# Altium footprint library QFP_Shrink_Rect_40P_Side_M.PcbLib: 12 footprints
Each footprint in its own frame and in the unit in brackets; x right, y up, seen from the top. Pads: shape width x height; smd on the part's side, far side on the other; paste and mask are expansions set on the pad; w line width, h text height; cw(c..) or ccw(c..) is an arc to the next point about the centre after c.
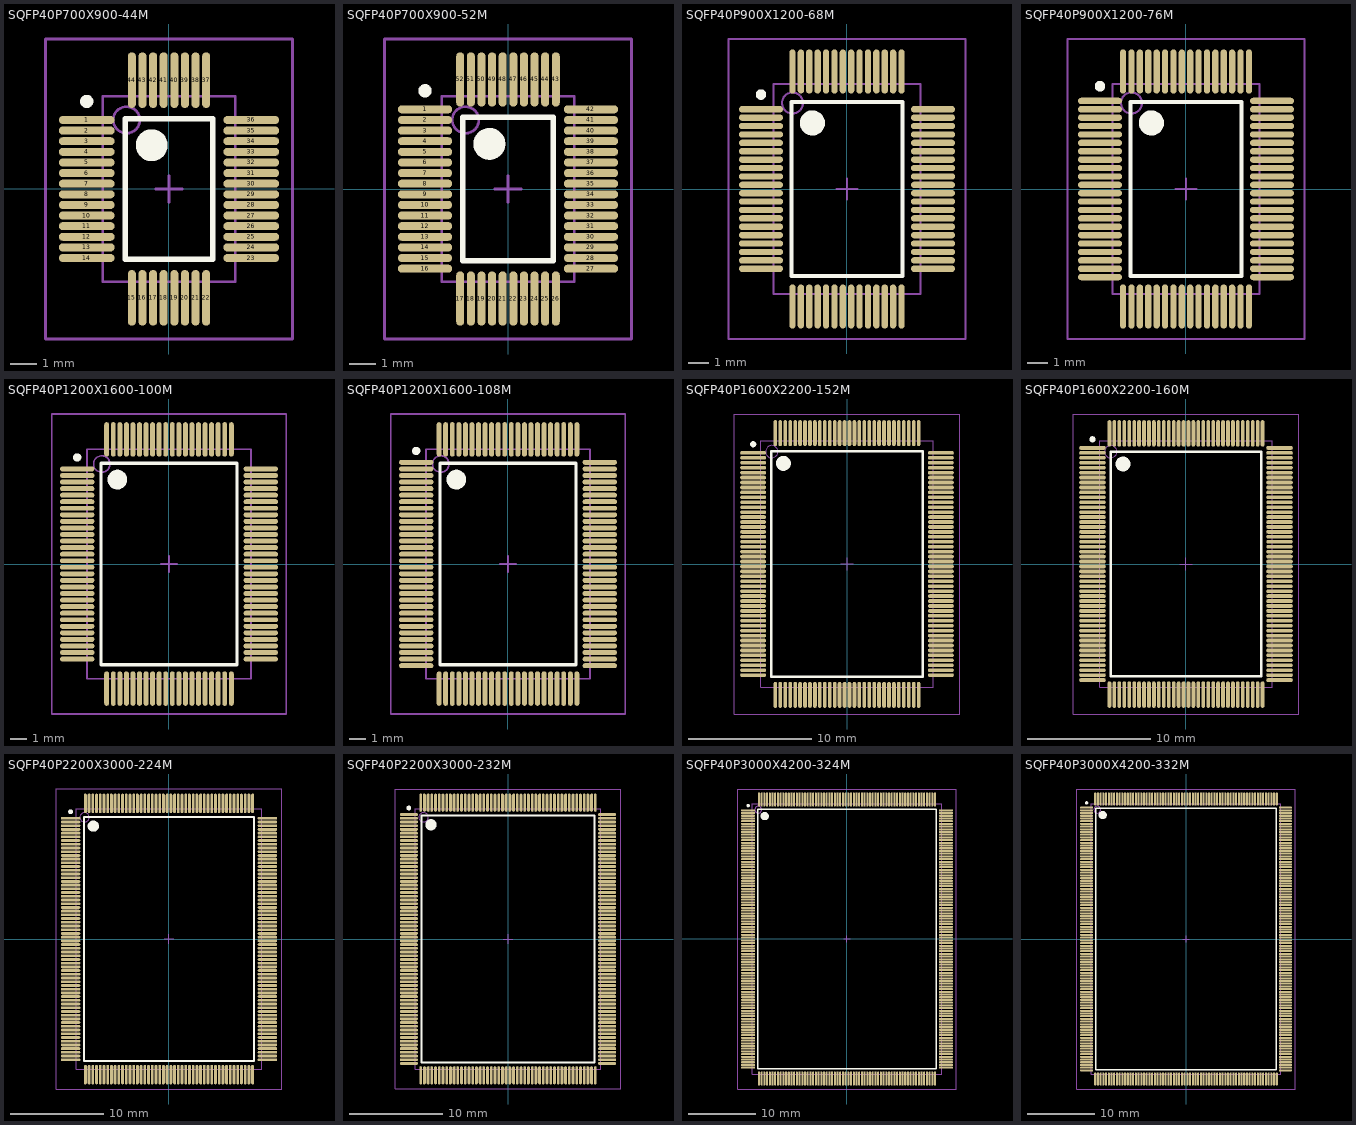
[diagram p0: the footprints below, top view; thin cyan lines are the x and y axes]

## SQFP40P700X900-44M [mm] "Shrink QFP, 44-Leads, Body 7x5 mm, Pitch 0.4mm, IPC Low Density"
height 1.7
pads (44):
  oval 2.1x0.3 smd: 1(-3.1,2.6) 2(-3.1,2.2) 3(-3.1,1.8) 4(-3.1,1.4) 5(-3.1,1) 6(-3.1,0.6) 7(-3.1,0.2) 8(-3.1,-0.2) 9(-3.1,-0.6) 10(-3.1,-1) 11(-3.1,-1.4) 12(-3.1,-1.8) 13(-3.1,-2.2) 14(-3.1,-2.6) 23(3.1,-2.6) 24(3.1,-2.2) 25(3.1,-1.8) 26(3.1,-1.4) 27(3.1,-1) 28(3.1,-0.6) 29(3.1,-0.2) 30(3.1,0.2) 31(3.1,0.6) 32(3.1,1) 33(3.1,1.4) 34(3.1,1.8) 35(3.1,2.2) 36(3.1,2.6)
  oval 0.3x2.1 smd: 15(-1.4,-4.1) 16(-1,-4.1) 17(-0.6,-4.1) 18(-0.2,-4.1) 19(0.2,-4.1) 20(0.6,-4.1) 21(1,-4.1) 22(1.4,-4.1) 37(1.4,4.1) 38(1,4.1) 39(0.6,4.1) 40(0.2,4.1) 41(-0.2,4.1) 42(-0.6,4.1) 43(-1,4.1) 44(-1.4,4.1)
Top Overlay:
  circle w0.6: c-0.65,1.65 r0.3
  circle w0.25: c-3.1,3.3 r0.125
  lines w0.2: -1.65,-2.65 1.65,-2.65 1.65,2.65 -1.65,2.65 -1.65,-2.65
Mechanical 13:
  circle w0.1: c-1.6,2.6 r0.5
  lines w0.1: -2.5,-3.5 2.5,-3.5 2.5,3.5 -2.5,3.5 -2.5,-3.5
Mechanical 15:
  lines w0.1: -0.5,0 0.5,0 ; 0,-0.5 0,0.5 ; -4.65,-5.65 4.65,-5.65 4.65,5.65 -4.65,5.65 -4.65,-5.65
3D body: height 1.7, standoff 0, extent -2.5,-3.5 2.5,3.5

## SQFP40P700X900-52M [mm] "Shrink QFP, 52-Leads, Body 7x5 mm, Pitch 0.4mm, IPC Low Density"
height 1.7
pads (52):
  oval 2.05x0.3 smd: 1(-3.125,3) 2(-3.125,2.6) 3(-3.125,2.2) 4(-3.125,1.8) 5(-3.125,1.4) 6(-3.125,1) 7(-3.125,0.6) 8(-3.125,0.2) 9(-3.125,-0.2) 10(-3.125,-0.6) 11(-3.125,-1) 12(-3.125,-1.4) 13(-3.125,-1.8) 14(-3.125,-2.2) 15(-3.125,-2.6) 16(-3.125,-3) 27(3.125,-3) 28(3.125,-2.6) 29(3.125,-2.2) 30(3.125,-1.8) 31(3.125,-1.4) 32(3.125,-1) 33(3.125,-0.6) 34(3.125,-0.2) 35(3.125,0.2) 36(3.125,0.6) 37(3.125,1) 38(3.125,1.4) 39(3.125,1.8) 40(3.125,2.2) 41(3.125,2.6) 42(3.125,3)
  oval 0.3x2.05 smd: 17(-1.8,-4.125) 18(-1.4,-4.125) 19(-1,-4.125) 20(-0.6,-4.125) 21(-0.2,-4.125) 22(0.2,-4.125) 23(0.6,-4.125) 24(1,-4.125) 25(1.4,-4.125) 26(1.8,-4.125) 43(1.8,4.125) 44(1.4,4.125) 45(1,4.125) 46(0.6,4.125) 47(0.2,4.125) 48(-0.2,4.125) 49(-0.6,4.125) 50(-1,4.125) 51(-1.4,4.125) 52(-1.8,4.125)
Top Overlay:
  circle w0.6: c-0.7,1.7 r0.3
  circle w0.25: c-3.125,3.7 r0.125
  lines w0.2: -1.7,-2.7 1.7,-2.7 1.7,2.7 -1.7,2.7 -1.7,-2.7
Mechanical 13:
  circle w0.1: c-1.6,2.6 r0.5
  lines w0.1: -2.5,-3.5 2.5,-3.5 2.5,3.5 -2.5,3.5 -2.5,-3.5
Mechanical 15:
  lines w0.1: -0.5,0 0.5,0 ; 0,-0.5 0,0.5 ; -4.65,-5.65 4.65,-5.65 4.65,5.65 -4.65,5.65 -4.65,-5.65
3D body: height 1.7, standoff 0, extent -2.5,-3.5 2.5,3.5

## SQFP40P900X1200-68M [mm] "Shrink QFP, 68-Leads, Body 10x7 mm, Pitch 0.4mm, IPC Low Density"
height 2.2
pads (68):
  oval 2.1x0.3 smd: 1(-4.1,3.8) 2(-4.1,3.4) 3(-4.1,3) 4(-4.1,2.6) 5(-4.1,2.2) 6(-4.1,1.8) 7(-4.1,1.4) 8(-4.1,1) 9(-4.1,0.6) 10(-4.1,0.2) 11(-4.1,-0.2) 12(-4.1,-0.6) 13(-4.1,-1) 14(-4.1,-1.4) 15(-4.1,-1.8) 16(-4.1,-2.2) 17(-4.1,-2.6) 18(-4.1,-3) 19(-4.1,-3.4) 20(-4.1,-3.8) 35(4.1,-3.8) 36(4.1,-3.4) 37(4.1,-3) 38(4.1,-2.6) 39(4.1,-2.2) 40(4.1,-1.8) 41(4.1,-1.4) 42(4.1,-1) 43(4.1,-0.6) 44(4.1,-0.2) 45(4.1,0.2) 46(4.1,0.6) 47(4.1,1) 48(4.1,1.4) 49(4.1,1.8) 50(4.1,2.2) 51(4.1,2.6) 52(4.1,3) 53(4.1,3.4) 54(4.1,3.8)
  oval 0.3x2.1 smd: 21(-2.6,-5.6) 22(-2.2,-5.6) 23(-1.8,-5.6) 24(-1.4,-5.6) 25(-1,-5.6) 26(-0.6,-5.6) 27(-0.2,-5.6) 28(0.2,-5.6) 29(0.6,-5.6) 30(1,-5.6) 31(1.4,-5.6) 32(1.8,-5.6) 33(2.2,-5.6) 34(2.6,-5.6) 55(2.6,5.6) 56(2.2,5.6) 57(1.8,5.6) 58(1.4,5.6) 59(1,5.6) 60(0.6,5.6) 61(0.2,5.6) 62(-0.2,5.6) 63(-0.6,5.6) 64(-1,5.6) 65(-1.4,5.6) 66(-1.8,5.6) 67(-2.2,5.6) 68(-2.6,5.6)
Top Overlay:
  circle w0.6: c-1.65,3.15 r0.3
  circle w0.25: c-4.1,4.5 r0.125
  lines w0.2: -2.65,-4.15 2.65,-4.15 2.65,4.15 -2.65,4.15 -2.65,-4.15
Mechanical 13:
  circle w0.1: c-2.6,4.1 r0.5
  lines w0.1: -3.5,-5 3.5,-5 3.5,5 -3.5,5 -3.5,-5
Mechanical 15:
  lines w0.1: -0.5,0 0.5,0 ; 0,-0.5 0,0.5 ; -5.65,-7.15 5.65,-7.15 5.65,7.15 -5.65,7.15 -5.65,-7.15
3D body: height 2.2, standoff 0, extent -3.5,-5 3.5,5

## SQFP40P900X1200-76M [mm] "Shrink QFP, 76-Leads, Body 10x7 mm, Pitch 0.4mm, IPC Low Density"
height 2.2
pads (76):
  oval 2.1x0.3 smd: 1(-4.1,4.2) 2(-4.1,3.8) 3(-4.1,3.4) 4(-4.1,3) 5(-4.1,2.6) 6(-4.1,2.2) 7(-4.1,1.8) 8(-4.1,1.4) 9(-4.1,1) 10(-4.1,0.6) 11(-4.1,0.2) 12(-4.1,-0.2) 13(-4.1,-0.6) 14(-4.1,-1) 15(-4.1,-1.4) 16(-4.1,-1.8) 17(-4.1,-2.2) 18(-4.1,-2.6) 19(-4.1,-3) 20(-4.1,-3.4) 21(-4.1,-3.8) 22(-4.1,-4.2) 39(4.1,-4.2) 40(4.1,-3.8) 41(4.1,-3.4) 42(4.1,-3) 43(4.1,-2.6) 44(4.1,-2.2) 45(4.1,-1.8) 46(4.1,-1.4) 47(4.1,-1) 48(4.1,-0.6) 49(4.1,-0.2) 50(4.1,0.2) 51(4.1,0.6) 52(4.1,1) 53(4.1,1.4) 54(4.1,1.8) 55(4.1,2.2) 56(4.1,2.6) 57(4.1,3) 58(4.1,3.4) 59(4.1,3.8) 60(4.1,4.2)
  oval 0.3x2.1 smd: 23(-3,-5.6) 24(-2.6,-5.6) 25(-2.2,-5.6) 26(-1.8,-5.6) 27(-1.4,-5.6) 28(-1,-5.6) 29(-0.6,-5.6) 30(-0.2,-5.6) 31(0.2,-5.6) 32(0.6,-5.6) 33(1,-5.6) 34(1.4,-5.6) 35(1.8,-5.6) 36(2.2,-5.6) 37(2.6,-5.6) 38(3,-5.6) 61(3,5.6) 62(2.6,5.6) 63(2.2,5.6) 64(1.8,5.6) 65(1.4,5.6) 66(1,5.6) 67(0.6,5.6) 68(0.2,5.6) 69(-0.2,5.6) 70(-0.6,5.6) 71(-1,5.6) 72(-1.4,5.6) 73(-1.8,5.6) 74(-2.2,5.6) 75(-2.6,5.6) 76(-3,5.6)
Top Overlay:
  circle w0.6: c-1.65,3.15 r0.3
  circle w0.25: c-4.1,4.9 r0.125
  lines w0.2: -2.65,-4.15 2.65,-4.15 2.65,4.15 -2.65,4.15 -2.65,-4.15
Mechanical 13:
  circle w0.1: c-2.6,4.1 r0.5
  lines w0.1: -3.5,-5 3.5,-5 3.5,5 -3.5,5 -3.5,-5
Mechanical 15:
  lines w0.1: -0.5,0 0.5,0 ; 0,-0.5 0,0.5 ; -5.65,-7.15 5.65,-7.15 5.65,7.15 -5.65,7.15 -5.65,-7.15
3D body: height 2.2, standoff 0, extent -3.5,-5 3.5,5

## SQFP40P1200X1600-100M [mm] "Shrink QFP, 100-Leads, Body 14x10 mm, Pitch 0.4mm, IPC Low Density"
height 2.2
pads (100):
  oval 2.1x0.3 smd: 1(-5.6,5.8) 2(-5.6,5.4) 3(-5.6,5) 4(-5.6,4.6) 5(-5.6,4.2) 6(-5.6,3.8) 7(-5.6,3.4) 8(-5.6,3) 9(-5.6,2.6) 10(-5.6,2.2) 11(-5.6,1.8) 12(-5.6,1.4) 13(-5.6,1) 14(-5.6,0.6) 15(-5.6,0.2) 16(-5.6,-0.2) 17(-5.6,-0.6) 18(-5.6,-1) 19(-5.6,-1.4) 20(-5.6,-1.8) 21(-5.6,-2.2) 22(-5.6,-2.6) 23(-5.6,-3) 24(-5.6,-3.4) 25(-5.6,-3.8) 26(-5.6,-4.2) 27(-5.6,-4.6) 28(-5.6,-5) 29(-5.6,-5.4) 30(-5.6,-5.8) 51(5.6,-5.8) 52(5.6,-5.4) 53(5.6,-5) 54(5.6,-4.6) 55(5.6,-4.2) 56(5.6,-3.8) 57(5.6,-3.4) 58(5.6,-3) 59(5.6,-2.6) 60(5.6,-2.2) 61(5.6,-1.8) 62(5.6,-1.4) 63(5.6,-1) 64(5.6,-0.6) 65(5.6,-0.2) 66(5.6,0.2) 67(5.6,0.6) 68(5.6,1) 69(5.6,1.4) 70(5.6,1.8) 71(5.6,2.2) 72(5.6,2.6) 73(5.6,3) 74(5.6,3.4) 75(5.6,3.8) 76(5.6,4.2) 77(5.6,4.6) 78(5.6,5) 79(5.6,5.4) 80(5.6,5.8)
  oval 0.3x2.1 smd: 31(-3.8,-7.6) 32(-3.4,-7.6) 33(-3,-7.6) 34(-2.6,-7.6) 35(-2.2,-7.6) 36(-1.8,-7.6) 37(-1.4,-7.6) 38(-1,-7.6) 39(-0.6,-7.6) 40(-0.2,-7.6) 41(0.2,-7.6) 42(0.6,-7.6) 43(1,-7.6) 44(1.4,-7.6) 45(1.8,-7.6) 46(2.2,-7.6) 47(2.6,-7.6) 48(3,-7.6) 49(3.4,-7.6) 50(3.8,-7.6) 81(3.8,7.6) 82(3.4,7.6) 83(3,7.6) 84(2.6,7.6) 85(2.2,7.6) 86(1.8,7.6) 87(1.4,7.6) 88(1,7.6) 89(0.6,7.6) 90(0.2,7.6) 91(-0.2,7.6) 92(-0.6,7.6) 93(-1,7.6) 94(-1.4,7.6) 95(-1.8,7.6) 96(-2.2,7.6) 97(-2.6,7.6) 98(-3,7.6) 99(-3.4,7.6) 100(-3.8,7.6)
Top Overlay:
  circle w0.6: c-3.15,5.15 r0.3
  circle w0.25: c-5.6,6.5 r0.125
  lines w0.2: -4.15,-6.15 4.15,-6.15 4.15,6.15 -4.15,6.15 -4.15,-6.15
Mechanical 13:
  circle w0.1: c-4.1,6.1 r0.5
  lines w0.1: -5,-7 5,-7 5,7 -5,7 -5,-7
Mechanical 15:
  lines w0.1: -0.5,0 0.5,0 ; 0,-0.5 0,0.5 ; -7.15,-9.15 7.15,-9.15 7.15,9.15 -7.15,9.15 -7.15,-9.15
3D body: height 2.2, standoff 0, extent -5,-7 5,7

## SQFP40P1200X1600-108M [mm] "Shrink QFP, 108-Leads, Body 14x10 mm, Pitch 0.4mm, IPC Low Density"
height 2.2
pads (108):
  oval 2.1x0.3 smd: 1(-5.6,6.2) 2(-5.6,5.8) 3(-5.6,5.4) 4(-5.6,5) 5(-5.6,4.6) 6(-5.6,4.2) 7(-5.6,3.8) 8(-5.6,3.4) 9(-5.6,3) 10(-5.6,2.6) 11(-5.6,2.2) 12(-5.6,1.8) 13(-5.6,1.4) 14(-5.6,1) 15(-5.6,0.6) 16(-5.6,0.2) 17(-5.6,-0.2) 18(-5.6,-0.6) 19(-5.6,-1) 20(-5.6,-1.4) 21(-5.6,-1.8) 22(-5.6,-2.2) 23(-5.6,-2.6) 24(-5.6,-3) 25(-5.6,-3.4) 26(-5.6,-3.8) 27(-5.6,-4.2) 28(-5.6,-4.6) 29(-5.6,-5) 30(-5.6,-5.4) 31(-5.6,-5.8) 32(-5.6,-6.2) 55(5.6,-6.2) 56(5.6,-5.8) 57(5.6,-5.4) 58(5.6,-5) 59(5.6,-4.6) 60(5.6,-4.2) 61(5.6,-3.8) 62(5.6,-3.4) 63(5.6,-3) 64(5.6,-2.6) 65(5.6,-2.2) 66(5.6,-1.8) 67(5.6,-1.4) 68(5.6,-1) 69(5.6,-0.6) 70(5.6,-0.2) 71(5.6,0.2) 72(5.6,0.6) 73(5.6,1) 74(5.6,1.4) 75(5.6,1.8) 76(5.6,2.2) 77(5.6,2.6) 78(5.6,3) 79(5.6,3.4) 80(5.6,3.8) 81(5.6,4.2) 82(5.6,4.6) 83(5.6,5) 84(5.6,5.4) 85(5.6,5.8) 86(5.6,6.2)
  oval 0.3x2.1 smd: 33(-4.2,-7.6) 34(-3.8,-7.6) 35(-3.4,-7.6) 36(-3,-7.6) 37(-2.6,-7.6) 38(-2.2,-7.6) 39(-1.8,-7.6) 40(-1.4,-7.6) 41(-1,-7.6) 42(-0.6,-7.6) 43(-0.2,-7.6) 44(0.2,-7.6) 45(0.6,-7.6) 46(1,-7.6) 47(1.4,-7.6) 48(1.8,-7.6) 49(2.2,-7.6) 50(2.6,-7.6) 51(3,-7.6) 52(3.4,-7.6) 53(3.8,-7.6) 54(4.2,-7.6) 87(4.2,7.6) 88(3.8,7.6) 89(3.4,7.6) 90(3,7.6) 91(2.6,7.6) 92(2.2,7.6) 93(1.8,7.6) 94(1.4,7.6) 95(1,7.6) 96(0.6,7.6) 97(0.2,7.6) 98(-0.2,7.6) 99(-0.6,7.6) 100(-1,7.6) 101(-1.4,7.6) 102(-1.8,7.6) 103(-2.2,7.6) 104(-2.6,7.6) 105(-3,7.6) 106(-3.4,7.6) 107(-3.8,7.6) 108(-4.2,7.6)
Top Overlay:
  circle w0.6: c-3.15,5.15 r0.3
  circle w0.25: c-5.6,6.9 r0.125
  lines w0.2: -4.15,-6.15 4.15,-6.15 4.15,6.15 -4.15,6.15 -4.15,-6.15
Mechanical 13:
  circle w0.1: c-4.1,6.1 r0.5
  lines w0.1: -5,-7 5,-7 5,7 -5,7 -5,-7
Mechanical 15:
  lines w0.1: -0.5,0 0.5,0 ; 0,-0.5 0,0.5 ; -7.15,-9.15 7.15,-9.15 7.15,9.15 -7.15,9.15 -7.15,-9.15
3D body: height 2.2, standoff 0, extent -5,-7 5,7

## SQFP40P1600X2200-152M [mm] "Shrink QFP, 152-Leads, Body 20x14 mm, Pitch 0.4mm, IPC Low Density"
height 2.2
pads (152):
  oval 2.1x0.3 smd: 1(-7.6,9) 2(-7.6,8.6) 3(-7.6,8.2) 4(-7.6,7.8) 5(-7.6,7.4) 6(-7.6,7) 7(-7.6,6.6) 8(-7.6,6.2) 9(-7.6,5.8) 10(-7.6,5.4) 11(-7.6,5) 12(-7.6,4.6) 13(-7.6,4.2) 14(-7.6,3.8) 15(-7.6,3.4) 16(-7.6,3) 17(-7.6,2.6) 18(-7.6,2.2) 19(-7.6,1.8) 20(-7.6,1.4) 21(-7.6,1) 22(-7.6,0.6) 23(-7.6,0.2) 24(-7.6,-0.2) 25(-7.6,-0.6) 26(-7.6,-1) 27(-7.6,-1.4) 28(-7.6,-1.8) 29(-7.6,-2.2) 30(-7.6,-2.6) 31(-7.6,-3) 32(-7.6,-3.4) 33(-7.6,-3.8) 34(-7.6,-4.2) 35(-7.6,-4.6) 36(-7.6,-5) 37(-7.6,-5.4) 38(-7.6,-5.8) 39(-7.6,-6.2) 40(-7.6,-6.6) 41(-7.6,-7) 42(-7.6,-7.4) 43(-7.6,-7.8) 44(-7.6,-8.2) 45(-7.6,-8.6) 46(-7.6,-9) 77(7.6,-9) 78(7.6,-8.6) 79(7.6,-8.2) 80(7.6,-7.8) 81(7.6,-7.4) 82(7.6,-7) 83(7.6,-6.6) 84(7.6,-6.2) 85(7.6,-5.8) 86(7.6,-5.4) 87(7.6,-5) 88(7.6,-4.6) 89(7.6,-4.2) 90(7.6,-3.8) 91(7.6,-3.4) 92(7.6,-3) 93(7.6,-2.6) 94(7.6,-2.2) 95(7.6,-1.8) 96(7.6,-1.4) 97(7.6,-1) 98(7.6,-0.6) 99(7.6,-0.2) 100(7.6,0.2) 101(7.6,0.6) 102(7.6,1) 103(7.6,1.4) 104(7.6,1.8) 105(7.6,2.2) 106(7.6,2.6) 107(7.6,3) 108(7.6,3.4) 109(7.6,3.8) 110(7.6,4.2) 111(7.6,4.6) 112(7.6,5) 113(7.6,5.4) 114(7.6,5.8) 115(7.6,6.2) 116(7.6,6.6) 117(7.6,7) 118(7.6,7.4) 119(7.6,7.8) 120(7.6,8.2) 121(7.6,8.6) 122(7.6,9)
  oval 0.3x2.1 smd: 47(-5.8,-10.6) 48(-5.4,-10.6) 49(-5,-10.6) 50(-4.6,-10.6) 51(-4.2,-10.6) 52(-3.8,-10.6) 53(-3.4,-10.6) 54(-3,-10.6) 55(-2.6,-10.6) 56(-2.2,-10.6) 57(-1.8,-10.6) 58(-1.4,-10.6) 59(-1,-10.6) 60(-0.6,-10.6) 61(-0.2,-10.6) 62(0.2,-10.6) 63(0.6,-10.6) 64(1,-10.6) 65(1.4,-10.6) 66(1.8,-10.6) 67(2.2,-10.6) 68(2.6,-10.6) 69(3,-10.6) 70(3.4,-10.6) 71(3.8,-10.6) 72(4.2,-10.6) 73(4.6,-10.6) 74(5,-10.6) 75(5.4,-10.6) 76(5.8,-10.6) 123(5.8,10.6) 124(5.4,10.6) 125(5,10.6) 126(4.6,10.6) 127(4.2,10.6) 128(3.8,10.6) 129(3.4,10.6) 130(3,10.6) 131(2.6,10.6) 132(2.2,10.6) 133(1.8,10.6) 134(1.4,10.6) 135(1,10.6) 136(0.6,10.6) 137(0.2,10.6) 138(-0.2,10.6) 139(-0.6,10.6) 140(-1,10.6) 141(-1.4,10.6) 142(-1.8,10.6) 143(-2.2,10.6) 144(-2.6,10.6) 145(-3,10.6) 146(-3.4,10.6) 147(-3.8,10.6) 148(-4.2,10.6) 149(-4.6,10.6) 150(-5,10.6) 151(-5.4,10.6) 152(-5.8,10.6)
Top Overlay:
  circle w0.6: c-5.15,8.15 r0.3
  circle w0.25: c-7.6,9.7 r0.125
  lines w0.2: -6.15,-9.15 6.15,-9.15 6.15,9.15 -6.15,9.15 -6.15,-9.15
Mechanical 13:
  circle w0.1: c-6.1,9.1 r0.5
  lines w0.1: -7,-10 7,-10 7,10 -7,10 -7,-10
Mechanical 15:
  lines w0.1: -0.5,0 0.5,0 ; 0,-0.5 0,0.5 ; -9.15,-12.15 9.15,-12.15 9.15,12.15 -9.15,12.15 -9.15,-12.15
3D body: height 2.2, standoff 0, extent -7,-10 7,10

## SQFP40P1600X2200-160M [mm] "Shrink QFP, 160-Leads, Body 20x14 mm, Pitch 0.4mm, IPC Low Density"
height 2.2
pads (160):
  oval 2.15x0.3 smd: 1(-7.575,9.4) 2(-7.575,9) 3(-7.575,8.6) 4(-7.575,8.2) 5(-7.575,7.8) 6(-7.575,7.4) 7(-7.575,7) 8(-7.575,6.6) 9(-7.575,6.2) 10(-7.575,5.8) 11(-7.575,5.4) 12(-7.575,5) 13(-7.575,4.6) 14(-7.575,4.2) 15(-7.575,3.8) 16(-7.575,3.4) 17(-7.575,3) 18(-7.575,2.6) 19(-7.575,2.2) 20(-7.575,1.8) 21(-7.575,1.4) 22(-7.575,1) 23(-7.575,0.6) 24(-7.575,0.2) 25(-7.575,-0.2) 26(-7.575,-0.6) 27(-7.575,-1) 28(-7.575,-1.4) 29(-7.575,-1.8) 30(-7.575,-2.2) 31(-7.575,-2.6) 32(-7.575,-3) 33(-7.575,-3.4) 34(-7.575,-3.8) 35(-7.575,-4.2) 36(-7.575,-4.6) 37(-7.575,-5) 38(-7.575,-5.4) 39(-7.575,-5.8) 40(-7.575,-6.2) 41(-7.575,-6.6) 42(-7.575,-7) 43(-7.575,-7.4) 44(-7.575,-7.8) 45(-7.575,-8.2) 46(-7.575,-8.6) 47(-7.575,-9) 48(-7.575,-9.4) 81(7.575,-9.4) 82(7.575,-9) 83(7.575,-8.6) 84(7.575,-8.2) 85(7.575,-7.8) 86(7.575,-7.4) 87(7.575,-7) 88(7.575,-6.6) 89(7.575,-6.2) 90(7.575,-5.8) 91(7.575,-5.4) 92(7.575,-5) 93(7.575,-4.6) 94(7.575,-4.2) 95(7.575,-3.8) 96(7.575,-3.4) 97(7.575,-3) 98(7.575,-2.6) 99(7.575,-2.2) 100(7.575,-1.8) 101(7.575,-1.4) 102(7.575,-1) 103(7.575,-0.6) 104(7.575,-0.2) 105(7.575,0.2) 106(7.575,0.6) 107(7.575,1) 108(7.575,1.4) 109(7.575,1.8) 110(7.575,2.2) 111(7.575,2.6) 112(7.575,3) 113(7.575,3.4) 114(7.575,3.8) 115(7.575,4.2) 116(7.575,4.6) 117(7.575,5) 118(7.575,5.4) 119(7.575,5.8) 120(7.575,6.2) 121(7.575,6.6) 122(7.575,7) 123(7.575,7.4) 124(7.575,7.8) 125(7.575,8.2) 126(7.575,8.6) 127(7.575,9) 128(7.575,9.4)
  oval 0.3x2.15 smd: 49(-6.2,-10.575) 50(-5.8,-10.575) 51(-5.4,-10.575) 52(-5,-10.575) 53(-4.6,-10.575) 54(-4.2,-10.575) 55(-3.8,-10.575) 56(-3.4,-10.575) 57(-3,-10.575) 58(-2.6,-10.575) 59(-2.2,-10.575) 60(-1.8,-10.575) 61(-1.4,-10.575) 62(-1,-10.575) 63(-0.6,-10.575) 64(-0.2,-10.575) 65(0.2,-10.575) 66(0.6,-10.575) 67(1,-10.575) 68(1.4,-10.575) 69(1.8,-10.575) 70(2.2,-10.575) 71(2.6,-10.575) 72(3,-10.575) 73(3.4,-10.575) 74(3.8,-10.575) 75(4.2,-10.575) 76(4.6,-10.575) 77(5,-10.575) 78(5.4,-10.575) 79(5.8,-10.575) 80(6.2,-10.575) 129(6.2,10.575) 130(5.8,10.575) 131(5.4,10.575) 132(5,10.575) 133(4.6,10.575) 134(4.2,10.575) 135(3.8,10.575) 136(3.4,10.575) 137(3,10.575) 138(2.6,10.575) 139(2.2,10.575) 140(1.8,10.575) 141(1.4,10.575) 142(1,10.575) 143(0.6,10.575) 144(0.2,10.575) 145(-0.2,10.575) 146(-0.6,10.575) 147(-1,10.575) 148(-1.4,10.575) 149(-1.8,10.575) 150(-2.2,10.575) 151(-2.6,10.575) 152(-3,10.575) 153(-3.4,10.575) 154(-3.8,10.575) 155(-4.2,10.575) 156(-4.6,10.575) 157(-5,10.575) 158(-5.4,10.575) 159(-5.8,10.575) 160(-6.2,10.575)
Top Overlay:
  circle w0.6: c-5.1,8.1 r0.3
  circle w0.25: c-7.575,10.1 r0.125
  lines w0.2: -6.1,-9.1 6.1,-9.1 6.1,9.1 -6.1,9.1 -6.1,-9.1
Mechanical 13:
  circle w0.1: c-6.1,9.1 r0.5
  lines w0.1: -7,-10 7,-10 7,10 -7,10 -7,-10
Mechanical 15:
  lines w0.1: -0.5,0 0.5,0 ; 0,-0.5 0,0.5 ; -9.15,-12.15 9.15,-12.15 9.15,12.15 -9.15,12.15 -9.15,-12.15
3D body: height 2.2, standoff 0, extent -7,-10 7,10

## SQFP40P2200X3000-224M [mm] "Shrink QFP, 224-Leads, Body 28x20 mm, Pitch 0.4mm, IPC Low Density"
height 3.75
pads (224):
  oval 2.1x0.3 smd: 1(-10.6,13) 2(-10.6,12.6) 3(-10.6,12.2) 4(-10.6,11.8) 5(-10.6,11.4) 6(-10.6,11) 7(-10.6,10.6) 8(-10.6,10.2) 9(-10.6,9.8) 10(-10.6,9.4) 11(-10.6,9) 12(-10.6,8.6) 13(-10.6,8.2) 14(-10.6,7.8) 15(-10.6,7.4) 16(-10.6,7) 17(-10.6,6.6) 18(-10.6,6.2) 19(-10.6,5.8) 20(-10.6,5.4) 21(-10.6,5) 22(-10.6,4.6) 23(-10.6,4.2) 24(-10.6,3.8) 25(-10.6,3.4) 26(-10.6,3) 27(-10.6,2.6) 28(-10.6,2.2) 29(-10.6,1.8) 30(-10.6,1.4) 31(-10.6,1) 32(-10.6,0.6) 33(-10.6,0.2) 34(-10.6,-0.2) 35(-10.6,-0.6) 36(-10.6,-1) 37(-10.6,-1.4) 38(-10.6,-1.8) 39(-10.6,-2.2) 40(-10.6,-2.6) 41(-10.6,-3) 42(-10.6,-3.4) 43(-10.6,-3.8) 44(-10.6,-4.2) 45(-10.6,-4.6) 46(-10.6,-5) 47(-10.6,-5.4) 48(-10.6,-5.8) 49(-10.6,-6.2) 50(-10.6,-6.6) 51(-10.6,-7) 52(-10.6,-7.4) 53(-10.6,-7.8) 54(-10.6,-8.2) 55(-10.6,-8.6) 56(-10.6,-9) 57(-10.6,-9.4) 58(-10.6,-9.8) 59(-10.6,-10.2) 60(-10.6,-10.6) 61(-10.6,-11) 62(-10.6,-11.4) 63(-10.6,-11.8) 64(-10.6,-12.2) 65(-10.6,-12.6) 66(-10.6,-13) 113(10.6,-13) 114(10.6,-12.6) 115(10.6,-12.2) 116(10.6,-11.8) 117(10.6,-11.4) 118(10.6,-11) 119(10.6,-10.6) 120(10.6,-10.2) 121(10.6,-9.8) 122(10.6,-9.4) 123(10.6,-9) 124(10.6,-8.6) 125(10.6,-8.2) 126(10.6,-7.8) 127(10.6,-7.4) 128(10.6,-7) 129(10.6,-6.6) 130(10.6,-6.2) 131(10.6,-5.8) 132(10.6,-5.4) 133(10.6,-5) 134(10.6,-4.6) 135(10.6,-4.2) 136(10.6,-3.8) 137(10.6,-3.4) 138(10.6,-3) 139(10.6,-2.6) 140(10.6,-2.2) 141(10.6,-1.8) 142(10.6,-1.4) 143(10.6,-1) 144(10.6,-0.6) 145(10.6,-0.2) 146(10.6,0.2) 147(10.6,0.6) 148(10.6,1) 149(10.6,1.4) 150(10.6,1.8) 151(10.6,2.2) 152(10.6,2.6) 153(10.6,3) 154(10.6,3.4) 155(10.6,3.8) 156(10.6,4.2) 157(10.6,4.6) 158(10.6,5) 159(10.6,5.4) 160(10.6,5.8) 161(10.6,6.2) 162(10.6,6.6) 163(10.6,7) 164(10.6,7.4) 165(10.6,7.8) 166(10.6,8.2) 167(10.6,8.6) 168(10.6,9) 169(10.6,9.4) 170(10.6,9.8) 171(10.6,10.2) 172(10.6,10.6) 173(10.6,11) 174(10.6,11.4) 175(10.6,11.8) 176(10.6,12.2) 177(10.6,12.6) 178(10.6,13)
  oval 0.3x2.1 smd: 67(-9,-14.6) 68(-8.6,-14.6) 69(-8.2,-14.6) 70(-7.8,-14.6) 71(-7.4,-14.6) 72(-7,-14.6) 73(-6.6,-14.6) 74(-6.2,-14.6) 75(-5.8,-14.6) 76(-5.4,-14.6) 77(-5,-14.6) 78(-4.6,-14.6) 79(-4.2,-14.6) 80(-3.8,-14.6) 81(-3.4,-14.6) 82(-3,-14.6) 83(-2.6,-14.6) 84(-2.2,-14.6) 85(-1.8,-14.6) 86(-1.4,-14.6) 87(-1,-14.6) 88(-0.6,-14.6) 89(-0.2,-14.6) 90(0.2,-14.6) 91(0.6,-14.6) 92(1,-14.6) 93(1.4,-14.6) 94(1.8,-14.6) 95(2.2,-14.6) 96(2.6,-14.6) 97(3,-14.6) 98(3.4,-14.6) 99(3.8,-14.6) 100(4.2,-14.6) 101(4.6,-14.6) 102(5,-14.6) 103(5.4,-14.6) 104(5.8,-14.6) 105(6.2,-14.6) 106(6.6,-14.6) 107(7,-14.6) 108(7.4,-14.6) 109(7.8,-14.6) 110(8.2,-14.6) 111(8.6,-14.6) 112(9,-14.6) 179(9,14.6) 180(8.6,14.6) 181(8.2,14.6) 182(7.8,14.6) 183(7.4,14.6) 184(7,14.6) 185(6.6,14.6) 186(6.2,14.6) 187(5.8,14.6) 188(5.4,14.6) 189(5,14.6) 190(4.6,14.6) 191(4.2,14.6) 192(3.8,14.6) 193(3.4,14.6) 194(3,14.6) 195(2.6,14.6) 196(2.2,14.6) 197(1.8,14.6) 198(1.4,14.6) 199(1,14.6) 200(0.6,14.6) 201(0.2,14.6) 202(-0.2,14.6) 203(-0.6,14.6) 204(-1,14.6) 205(-1.4,14.6) 206(-1.8,14.6) 207(-2.2,14.6) 208(-2.6,14.6) 209(-3,14.6) 210(-3.4,14.6) 211(-3.8,14.6) 212(-4.2,14.6) 213(-4.6,14.6) 214(-5,14.6) 215(-5.4,14.6) 216(-5.8,14.6) 217(-6.2,14.6) 218(-6.6,14.6) 219(-7,14.6) 220(-7.4,14.6) 221(-7.8,14.6) 222(-8.2,14.6) 223(-8.6,14.6) 224(-9,14.6)
Top Overlay:
  circle w0.6: c-8.15,12.15 r0.3
  circle w0.25: c-10.6,13.7 r0.125
  lines w0.2: -9.15,-13.15 9.15,-13.15 9.15,13.15 -9.15,13.15 -9.15,-13.15
Mechanical 13:
  circle w0.1: c-9.1,13.1 r0.5
  lines w0.1: -10,-14 10,-14 10,14 -10,14 -10,-14
Mechanical 15:
  lines w0.1: -0.5,0 0.5,0 ; 0,-0.5 0,0.5 ; -12.15,-16.15 12.15,-16.15 12.15,16.15 -12.15,16.15 -12.15,-16.15
3D body: height 3.75, standoff 0, extent -10,-14 10,14

## SQFP40P2200X3000-232M [mm] "Shrink QFP, 232-Leads, Body 28x20 mm, Pitch 0.4mm, IPC Low Density"
height 3.75
pads (232):
  oval 1.95x0.3 smd: 1(-10.675,13.4) 2(-10.675,13) 3(-10.675,12.6) 4(-10.675,12.2) 5(-10.675,11.8) 6(-10.675,11.4) 7(-10.675,11) 8(-10.675,10.6) 9(-10.675,10.2) 10(-10.675,9.8) 11(-10.675,9.4) 12(-10.675,9) 13(-10.675,8.6) 14(-10.675,8.2) 15(-10.675,7.8) 16(-10.675,7.4) 17(-10.675,7) 18(-10.675,6.6) 19(-10.675,6.2) 20(-10.675,5.8) 21(-10.675,5.4) 22(-10.675,5) 23(-10.675,4.6) 24(-10.675,4.2) 25(-10.675,3.8) 26(-10.675,3.4) 27(-10.675,3) 28(-10.675,2.6) 29(-10.675,2.2) 30(-10.675,1.8) 31(-10.675,1.4) 32(-10.675,1) 33(-10.675,0.6) 34(-10.675,0.2) 35(-10.675,-0.2) 36(-10.675,-0.6) 37(-10.675,-1) 38(-10.675,-1.4) 39(-10.675,-1.8) 40(-10.675,-2.2) 41(-10.675,-2.6) 42(-10.675,-3) 43(-10.675,-3.4) 44(-10.675,-3.8) 45(-10.675,-4.2) 46(-10.675,-4.6) 47(-10.675,-5) 48(-10.675,-5.4) 49(-10.675,-5.8) 50(-10.675,-6.2) 51(-10.675,-6.6) 52(-10.675,-7) 53(-10.675,-7.4) 54(-10.675,-7.8) 55(-10.675,-8.2) 56(-10.675,-8.6) 57(-10.675,-9) 58(-10.675,-9.4) 59(-10.675,-9.8) 60(-10.675,-10.2) 61(-10.675,-10.6) 62(-10.675,-11) 63(-10.675,-11.4) 64(-10.675,-11.8) 65(-10.675,-12.2) 66(-10.675,-12.6) 67(-10.675,-13) 68(-10.675,-13.4) 117(10.675,-13.4) 118(10.675,-13) 119(10.675,-12.6) 120(10.675,-12.2) 121(10.675,-11.8) 122(10.675,-11.4) 123(10.675,-11) 124(10.675,-10.6) 125(10.675,-10.2) 126(10.675,-9.8) 127(10.675,-9.4) 128(10.675,-9) 129(10.675,-8.6) 130(10.675,-8.2) 131(10.675,-7.8) 132(10.675,-7.4) 133(10.675,-7) 134(10.675,-6.6) 135(10.675,-6.2) 136(10.675,-5.8) 137(10.675,-5.4) 138(10.675,-5) 139(10.675,-4.6) 140(10.675,-4.2) 141(10.675,-3.8) 142(10.675,-3.4) 143(10.675,-3) 144(10.675,-2.6) 145(10.675,-2.2) 146(10.675,-1.8) 147(10.675,-1.4) 148(10.675,-1) 149(10.675,-0.6) 150(10.675,-0.2) 151(10.675,0.2) 152(10.675,0.6) 153(10.675,1) 154(10.675,1.4) 155(10.675,1.8) 156(10.675,2.2) 157(10.675,2.6) 158(10.675,3) 159(10.675,3.4) 160(10.675,3.8) 161(10.675,4.2) 162(10.675,4.6) 163(10.675,5) 164(10.675,5.4) 165(10.675,5.8) 166(10.675,6.2) 167(10.675,6.6) 168(10.675,7) 169(10.675,7.4) 170(10.675,7.8) 171(10.675,8.2) 172(10.675,8.6) 173(10.675,9) 174(10.675,9.4) 175(10.675,9.8) 176(10.675,10.2) 177(10.675,10.6) 178(10.675,11) 179(10.675,11.4) 180(10.675,11.8) 181(10.675,12.2) 182(10.675,12.6) 183(10.675,13) 184(10.675,13.4)
  oval 0.3x1.95 smd: 69(-9.4,-14.675) 70(-9,-14.675) 71(-8.6,-14.675) 72(-8.2,-14.675) 73(-7.8,-14.675) 74(-7.4,-14.675) 75(-7,-14.675) 76(-6.6,-14.675) 77(-6.2,-14.675) 78(-5.8,-14.675) 79(-5.4,-14.675) 80(-5,-14.675) 81(-4.6,-14.675) 82(-4.2,-14.675) 83(-3.8,-14.675) 84(-3.4,-14.675) 85(-3,-14.675) 86(-2.6,-14.675) 87(-2.2,-14.675) 88(-1.8,-14.675) 89(-1.4,-14.675) 90(-1,-14.675) 91(-0.6,-14.675) 92(-0.2,-14.675) 93(0.2,-14.675) 94(0.6,-14.675) 95(1,-14.675) 96(1.4,-14.675) 97(1.8,-14.675) 98(2.2,-14.675) 99(2.6,-14.675) 100(3,-14.675) 101(3.4,-14.675) 102(3.8,-14.675) 103(4.2,-14.675) 104(4.6,-14.675) 105(5,-14.675) 106(5.4,-14.675) 107(5.8,-14.675) 108(6.2,-14.675) 109(6.6,-14.675) 110(7,-14.675) 111(7.4,-14.675) 112(7.8,-14.675) 113(8.2,-14.675) 114(8.6,-14.675) 115(9,-14.675) 116(9.4,-14.675) 185(9.4,14.675) 186(9,14.675) 187(8.6,14.675) 188(8.2,14.675) 189(7.8,14.675) 190(7.4,14.675) 191(7,14.675) 192(6.6,14.675) 193(6.2,14.675) 194(5.8,14.675) 195(5.4,14.675) 196(5,14.675) 197(4.6,14.675) 198(4.2,14.675) 199(3.8,14.675) 200(3.4,14.675) 201(3,14.675) 202(2.6,14.675) 203(2.2,14.675) 204(1.8,14.675) 205(1.4,14.675) 206(1,14.675) 207(0.6,14.675) 208(0.2,14.675) 209(-0.2,14.675) 210(-0.6,14.675) 211(-1,14.675) 212(-1.4,14.675) 213(-1.8,14.675) 214(-2.2,14.675) 215(-2.6,14.675) 216(-3,14.675) 217(-3.4,14.675) 218(-3.8,14.675) 219(-4.2,14.675) 220(-4.6,14.675) 221(-5,14.675) 222(-5.4,14.675) 223(-5.8,14.675) 224(-6.2,14.675) 225(-6.6,14.675) 226(-7,14.675) 227(-7.4,14.675) 228(-7.8,14.675) 229(-8.2,14.675) 230(-8.6,14.675) 231(-9,14.675) 232(-9.4,14.675)
Top Overlay:
  circle w0.6: c-8.3,12.3 r0.3
  circle w0.25: c-10.675,14.1 r0.125
  lines w0.2: -9.3,-13.3 9.3,-13.3 9.3,13.3 -9.3,13.3 -9.3,-13.3
Mechanical 13:
  circle w0.1: c-9.1,13.1 r0.5
  lines w0.1: -10,-14 10,-14 10,14 -10,14 -10,-14
Mechanical 15:
  lines w0.1: -0.5,0 0.5,0 ; 0,-0.5 0,0.5 ; -12.15,-16.15 12.15,-16.15 12.15,16.15 -12.15,16.15 -12.15,-16.15
3D body: height 3.75, standoff 0, extent -10,-14 10,14

## SQFP40P3000X4200-324M [mm] "Shrink QFP, 324-Leads, Body 40x28 mm, Pitch 0.4mm, IPC Low Density"
height 4.2
pads (324):
  oval 2.1x0.3 smd: 1(-14.6,19) 2(-14.6,18.6) 3(-14.6,18.2) 4(-14.6,17.8) 5(-14.6,17.4) 6(-14.6,17) 7(-14.6,16.6) 8(-14.6,16.2) 9(-14.6,15.8) 10(-14.6,15.4) 11(-14.6,15) 12(-14.6,14.6) 13(-14.6,14.2) 14(-14.6,13.8) 15(-14.6,13.4) 16(-14.6,13) 17(-14.6,12.6) 18(-14.6,12.2) 19(-14.6,11.8) 20(-14.6,11.4) 21(-14.6,11) 22(-14.6,10.6) 23(-14.6,10.2) 24(-14.6,9.8) 25(-14.6,9.4) 26(-14.6,9) 27(-14.6,8.6) 28(-14.6,8.2) 29(-14.6,7.8) 30(-14.6,7.4) 31(-14.6,7) 32(-14.6,6.6) 33(-14.6,6.2) 34(-14.6,5.8) 35(-14.6,5.4) 36(-14.6,5) 37(-14.6,4.6) 38(-14.6,4.2) 39(-14.6,3.8) 40(-14.6,3.4) 41(-14.6,3) 42(-14.6,2.6) 43(-14.6,2.2) 44(-14.6,1.8) 45(-14.6,1.4) 46(-14.6,1) 47(-14.6,0.6) 48(-14.6,0.2) 49(-14.6,-0.2) 50(-14.6,-0.6) 51(-14.6,-1) 52(-14.6,-1.4) 53(-14.6,-1.8) 54(-14.6,-2.2) 55(-14.6,-2.6) 56(-14.6,-3) 57(-14.6,-3.4) 58(-14.6,-3.8) 59(-14.6,-4.2) 60(-14.6,-4.6) 61(-14.6,-5) 62(-14.6,-5.4) 63(-14.6,-5.8) 64(-14.6,-6.2) 65(-14.6,-6.6) 66(-14.6,-7) 67(-14.6,-7.4) 68(-14.6,-7.8) 69(-14.6,-8.2) 70(-14.6,-8.6) 71(-14.6,-9) 72(-14.6,-9.4) 73(-14.6,-9.8) 74(-14.6,-10.2) 75(-14.6,-10.6) 76(-14.6,-11) 77(-14.6,-11.4) 78(-14.6,-11.8) 79(-14.6,-12.2) 80(-14.6,-12.6) 81(-14.6,-13) 82(-14.6,-13.4) 83(-14.6,-13.8) 84(-14.6,-14.2) 85(-14.6,-14.6) 86(-14.6,-15) 87(-14.6,-15.4) 88(-14.6,-15.8) 89(-14.6,-16.2) 90(-14.6,-16.6) 91(-14.6,-17) 92(-14.6,-17.4) 93(-14.6,-17.8) 94(-14.6,-18.2) 95(-14.6,-18.6) 96(-14.6,-19) 163(14.6,-19) 164(14.6,-18.6) 165(14.6,-18.2) 166(14.6,-17.8) 167(14.6,-17.4) 168(14.6,-17) 169(14.6,-16.6) 170(14.6,-16.2) 171(14.6,-15.8) 172(14.6,-15.4) 173(14.6,-15) 174(14.6,-14.6) 175(14.6,-14.2) 176(14.6,-13.8) 177(14.6,-13.4) 178(14.6,-13) 179(14.6,-12.6) 180(14.6,-12.2) 181(14.6,-11.8) 182(14.6,-11.4) 183(14.6,-11) 184(14.6,-10.6) 185(14.6,-10.2) 186(14.6,-9.8) 187(14.6,-9.4) 188(14.6,-9) 189(14.6,-8.6) 190(14.6,-8.2) 191(14.6,-7.8) 192(14.6,-7.4) 193(14.6,-7) 194(14.6,-6.6) 195(14.6,-6.2) 196(14.6,-5.8) 197(14.6,-5.4) 198(14.6,-5) 199(14.6,-4.6) 200(14.6,-4.2) 201(14.6,-3.8) 202(14.6,-3.4) 203(14.6,-3) 204(14.6,-2.6) 205(14.6,-2.2) 206(14.6,-1.8) 207(14.6,-1.4) 208(14.6,-1) 209(14.6,-0.6) 210(14.6,-0.2) 211(14.6,0.2) 212(14.6,0.6) 213(14.6,1) 214(14.6,1.4) 215(14.6,1.8) 216(14.6,2.2) 217(14.6,2.6) 218(14.6,3) 219(14.6,3.4) 220(14.6,3.8) 221(14.6,4.2) 222(14.6,4.6) 223(14.6,5) 224(14.6,5.4) 225(14.6,5.8) 226(14.6,6.2) 227(14.6,6.6) 228(14.6,7) 229(14.6,7.4) 230(14.6,7.8) 231(14.6,8.2) 232(14.6,8.6) 233(14.6,9) 234(14.6,9.4) 235(14.6,9.8) 236(14.6,10.2) 237(14.6,10.6) 238(14.6,11) 239(14.6,11.4) 240(14.6,11.8) 241(14.6,12.2) 242(14.6,12.6) 243(14.6,13) 244(14.6,13.4) 245(14.6,13.8) 246(14.6,14.2) 247(14.6,14.6) 248(14.6,15) 249(14.6,15.4) 250(14.6,15.8) 251(14.6,16.2) 252(14.6,16.6) 253(14.6,17) 254(14.6,17.4) 255(14.6,17.8) 256(14.6,18.2) 257(14.6,18.6) 258(14.6,19)
  oval 0.3x2.1 smd: 97(-13,-20.6) 98(-12.6,-20.6) 99(-12.2,-20.6) 100(-11.8,-20.6) 101(-11.4,-20.6) 102(-11,-20.6) 103(-10.6,-20.6) 104(-10.2,-20.6) 105(-9.8,-20.6) 106(-9.4,-20.6) 107(-9,-20.6) 108(-8.6,-20.6) 109(-8.2,-20.6) 110(-7.8,-20.6) 111(-7.4,-20.6) 112(-7,-20.6) 113(-6.6,-20.6) 114(-6.2,-20.6) 115(-5.8,-20.6) 116(-5.4,-20.6) 117(-5,-20.6) 118(-4.6,-20.6) 119(-4.2,-20.6) 120(-3.8,-20.6) 121(-3.4,-20.6) 122(-3,-20.6) 123(-2.6,-20.6) 124(-2.2,-20.6) 125(-1.8,-20.6) 126(-1.4,-20.6) 127(-1,-20.6) 128(-0.6,-20.6) 129(-0.2,-20.6) 130(0.2,-20.6) 131(0.6,-20.6) 132(1,-20.6) 133(1.4,-20.6) 134(1.8,-20.6) 135(2.2,-20.6) 136(2.6,-20.6) 137(3,-20.6) 138(3.4,-20.6) 139(3.8,-20.6) 140(4.2,-20.6) 141(4.6,-20.6) 142(5,-20.6) 143(5.4,-20.6) 144(5.8,-20.6) 145(6.2,-20.6) 146(6.6,-20.6) 147(7,-20.6) 148(7.4,-20.6) 149(7.8,-20.6) 150(8.2,-20.6) 151(8.6,-20.6) 152(9,-20.6) 153(9.4,-20.6) 154(9.8,-20.6) 155(10.2,-20.6) 156(10.6,-20.6) 157(11,-20.6) 158(11.4,-20.6) 159(11.8,-20.6) 160(12.2,-20.6) 161(12.6,-20.6) 162(13,-20.6) 259(13,20.6) 260(12.6,20.6) 261(12.2,20.6) 262(11.8,20.6) 263(11.4,20.6) 264(11,20.6) 265(10.6,20.6) 266(10.2,20.6) 267(9.8,20.6) 268(9.4,20.6) 269(9,20.6) 270(8.6,20.6) 271(8.2,20.6) 272(7.8,20.6) 273(7.4,20.6) 274(7,20.6) 275(6.6,20.6) 276(6.2,20.6) 277(5.8,20.6) 278(5.4,20.6) 279(5,20.6) 280(4.6,20.6) 281(4.2,20.6) 282(3.8,20.6) 283(3.4,20.6) 284(3,20.6) 285(2.6,20.6) 286(2.2,20.6) 287(1.8,20.6) 288(1.4,20.6) 289(1,20.6) 290(0.6,20.6) 291(0.2,20.6) 292(-0.2,20.6) 293(-0.6,20.6) 294(-1,20.6) 295(-1.4,20.6) 296(-1.8,20.6) 297(-2.2,20.6) 298(-2.6,20.6) 299(-3,20.6) 300(-3.4,20.6) 301(-3.8,20.6) 302(-4.2,20.6) 303(-4.6,20.6) 304(-5,20.6) 305(-5.4,20.6) 306(-5.8,20.6) 307(-6.2,20.6) 308(-6.6,20.6) 309(-7,20.6) 310(-7.4,20.6) 311(-7.8,20.6) 312(-8.2,20.6) 313(-8.6,20.6) 314(-9,20.6) 315(-9.4,20.6) 316(-9.8,20.6) 317(-10.2,20.6) 318(-10.6,20.6) 319(-11,20.6) 320(-11.4,20.6) 321(-11.8,20.6) 322(-12.2,20.6) 323(-12.6,20.6) 324(-13,20.6)
Top Overlay:
  circle w0.6: c-12.15,18.15 r0.3
  circle w0.25: c-14.6,19.7 r0.125
  lines w0.2: -13.15,-19.15 13.15,-19.15 13.15,19.15 -13.15,19.15 -13.15,-19.15
Mechanical 13:
  circle w0.1: c-13.1,19.1 r0.5
  lines w0.1: -14,-20 14,-20 14,20 -14,20 -14,-20
Mechanical 15:
  lines w0.1: -0.5,0 0.5,0 ; 0,-0.5 0,0.5 ; -16.15,-22.15 16.15,-22.15 16.15,22.15 -16.15,22.15 -16.15,-22.15
3D body: height 4.2, standoff 0, extent -14,-20 14,20

## SQFP40P3000X4200-332M [mm] "Shrink QFP, 332-Leads, Body 40x28 mm, Pitch 0.4mm, IPC Low Density"
height 4.2
pads (332):
  oval 1.95x0.3 smd: 1(-14.675,19.4) 2(-14.675,19) 3(-14.675,18.6) 4(-14.675,18.2) 5(-14.675,17.8) 6(-14.675,17.4) 7(-14.675,17) 8(-14.675,16.6) 9(-14.675,16.2) 10(-14.675,15.8) 11(-14.675,15.4) 12(-14.675,15) 13(-14.675,14.6) 14(-14.675,14.2) 15(-14.675,13.8) 16(-14.675,13.4) 17(-14.675,13) 18(-14.675,12.6) 19(-14.675,12.2) 20(-14.675,11.8) 21(-14.675,11.4) 22(-14.675,11) 23(-14.675,10.6) 24(-14.675,10.2) 25(-14.675,9.8) 26(-14.675,9.4) 27(-14.675,9) 28(-14.675,8.6) 29(-14.675,8.2) 30(-14.675,7.8) 31(-14.675,7.4) 32(-14.675,7) 33(-14.675,6.6) 34(-14.675,6.2) 35(-14.675,5.8) 36(-14.675,5.4) 37(-14.675,5) 38(-14.675,4.6) 39(-14.675,4.2) 40(-14.675,3.8) 41(-14.675,3.4) 42(-14.675,3) 43(-14.675,2.6) 44(-14.675,2.2) 45(-14.675,1.8) 46(-14.675,1.4) 47(-14.675,1) 48(-14.675,0.6) 49(-14.675,0.2) 50(-14.675,-0.2) 51(-14.675,-0.6) 52(-14.675,-1) 53(-14.675,-1.4) 54(-14.675,-1.8) 55(-14.675,-2.2) 56(-14.675,-2.6) 57(-14.675,-3) 58(-14.675,-3.4) 59(-14.675,-3.8) 60(-14.675,-4.2) 61(-14.675,-4.6) 62(-14.675,-5) 63(-14.675,-5.4) 64(-14.675,-5.8) 65(-14.675,-6.2) 66(-14.675,-6.6) 67(-14.675,-7) 68(-14.675,-7.4) 69(-14.675,-7.8) 70(-14.675,-8.2) 71(-14.675,-8.6) 72(-14.675,-9) 73(-14.675,-9.4) 74(-14.675,-9.8) 75(-14.675,-10.2) 76(-14.675,-10.6) 77(-14.675,-11) 78(-14.675,-11.4) 79(-14.675,-11.8) 80(-14.675,-12.2) 81(-14.675,-12.6) 82(-14.675,-13) 83(-14.675,-13.4) 84(-14.675,-13.8) 85(-14.675,-14.2) 86(-14.675,-14.6) 87(-14.675,-15) 88(-14.675,-15.4) 89(-14.675,-15.8) 90(-14.675,-16.2) 91(-14.675,-16.6) 92(-14.675,-17) 93(-14.675,-17.4) 94(-14.675,-17.8) 95(-14.675,-18.2) 96(-14.675,-18.6) 97(-14.675,-19) 98(-14.675,-19.4) 167(14.675,-19.4) 168(14.675,-19) 169(14.675,-18.6) 170(14.675,-18.2) 171(14.675,-17.8) 172(14.675,-17.4) 173(14.675,-17) 174(14.675,-16.6) 175(14.675,-16.2) 176(14.675,-15.8) 177(14.675,-15.4) 178(14.675,-15) 179(14.675,-14.6) 180(14.675,-14.2) 181(14.675,-13.8) 182(14.675,-13.4) 183(14.675,-13) 184(14.675,-12.6) 185(14.675,-12.2) 186(14.675,-11.8) 187(14.675,-11.4) 188(14.675,-11) 189(14.675,-10.6) 190(14.675,-10.2) 191(14.675,-9.8) 192(14.675,-9.4) 193(14.675,-9) 194(14.675,-8.6) 195(14.675,-8.2) 196(14.675,-7.8) 197(14.675,-7.4) 198(14.675,-7) 199(14.675,-6.6) 200(14.675,-6.2) 201(14.675,-5.8) 202(14.675,-5.4) 203(14.675,-5) 204(14.675,-4.6) 205(14.675,-4.2) 206(14.675,-3.8) 207(14.675,-3.4) 208(14.675,-3) 209(14.675,-2.6) 210(14.675,-2.2) 211(14.675,-1.8) 212(14.675,-1.4) 213(14.675,-1) 214(14.675,-0.6) 215(14.675,-0.2) 216(14.675,0.2) 217(14.675,0.6) 218(14.675,1) 219(14.675,1.4) 220(14.675,1.8) 221(14.675,2.2) 222(14.675,2.6) 223(14.675,3) 224(14.675,3.4) 225(14.675,3.8) 226(14.675,4.2) 227(14.675,4.6) 228(14.675,5) 229(14.675,5.4) 230(14.675,5.8) 231(14.675,6.2) 232(14.675,6.6) 233(14.675,7) 234(14.675,7.4) 235(14.675,7.8) 236(14.675,8.2) 237(14.675,8.6) 238(14.675,9) 239(14.675,9.4) 240(14.675,9.8) 241(14.675,10.2) 242(14.675,10.6) 243(14.675,11) 244(14.675,11.4) 245(14.675,11.8) 246(14.675,12.2) 247(14.675,12.6) 248(14.675,13) 249(14.675,13.4) 250(14.675,13.8) 251(14.675,14.2) 252(14.675,14.6) 253(14.675,15) 254(14.675,15.4) 255(14.675,15.8) 256(14.675,16.2) 257(14.675,16.6) 258(14.675,17) 259(14.675,17.4) 260(14.675,17.8) 261(14.675,18.2) 262(14.675,18.6) 263(14.675,19) 264(14.675,19.4)
  oval 0.3x1.95 smd: 99(-13.4,-20.675) 100(-13,-20.675) 101(-12.6,-20.675) 102(-12.2,-20.675) 103(-11.8,-20.675) 104(-11.4,-20.675) 105(-11,-20.675) 106(-10.6,-20.675) 107(-10.2,-20.675) 108(-9.8,-20.675) 109(-9.4,-20.675) 110(-9,-20.675) 111(-8.6,-20.675) 112(-8.2,-20.675) 113(-7.8,-20.675) 114(-7.4,-20.675) 115(-7,-20.675) 116(-6.6,-20.675) 117(-6.2,-20.675) 118(-5.8,-20.675) 119(-5.4,-20.675) 120(-5,-20.675) 121(-4.6,-20.675) 122(-4.2,-20.675) 123(-3.8,-20.675) 124(-3.4,-20.675) 125(-3,-20.675) 126(-2.6,-20.675) 127(-2.2,-20.675) 128(-1.8,-20.675) 129(-1.4,-20.675) 130(-1,-20.675) 131(-0.6,-20.675) 132(-0.2,-20.675) 133(0.2,-20.675) 134(0.6,-20.675) 135(1,-20.675) 136(1.4,-20.675) 137(1.8,-20.675) 138(2.2,-20.675) 139(2.6,-20.675) 140(3,-20.675) 141(3.4,-20.675) 142(3.8,-20.675) 143(4.2,-20.675) 144(4.6,-20.675) 145(5,-20.675) 146(5.4,-20.675) 147(5.8,-20.675) 148(6.2,-20.675) 149(6.6,-20.675) 150(7,-20.675) 151(7.4,-20.675) 152(7.8,-20.675) 153(8.2,-20.675) 154(8.6,-20.675) 155(9,-20.675) 156(9.4,-20.675) 157(9.8,-20.675) 158(10.2,-20.675) 159(10.6,-20.675) 160(11,-20.675) 161(11.4,-20.675) 162(11.8,-20.675) 163(12.2,-20.675) 164(12.6,-20.675) 165(13,-20.675) 166(13.4,-20.675) 265(13.4,20.675) 266(13,20.675) 267(12.6,20.675) 268(12.2,20.675) 269(11.8,20.675) 270(11.4,20.675) 271(11,20.675) 272(10.6,20.675) 273(10.2,20.675) 274(9.8,20.675) 275(9.4,20.675) 276(9,20.675) 277(8.6,20.675) 278(8.2,20.675) 279(7.8,20.675) 280(7.4,20.675) 281(7,20.675) 282(6.6,20.675) 283(6.2,20.675) 284(5.8,20.675) 285(5.4,20.675) 286(5,20.675) 287(4.6,20.675) 288(4.2,20.675) 289(3.8,20.675) 290(3.4,20.675) 291(3,20.675) 292(2.6,20.675) 293(2.2,20.675) 294(1.8,20.675) 295(1.4,20.675) 296(1,20.675) 297(0.6,20.675) 298(0.2,20.675) 299(-0.2,20.675) 300(-0.6,20.675) 301(-1,20.675) 302(-1.4,20.675) 303(-1.8,20.675) 304(-2.2,20.675) 305(-2.6,20.675) 306(-3,20.675) 307(-3.4,20.675) 308(-3.8,20.675) 309(-4.2,20.675) 310(-4.6,20.675) 311(-5,20.675) 312(-5.4,20.675) 313(-5.8,20.675) 314(-6.2,20.675) 315(-6.6,20.675) 316(-7,20.675) 317(-7.4,20.675) 318(-7.8,20.675) 319(-8.2,20.675) 320(-8.6,20.675) 321(-9,20.675) 322(-9.4,20.675) 323(-9.8,20.675) 324(-10.2,20.675) 325(-10.6,20.675) 326(-11,20.675) 327(-11.4,20.675) 328(-11.8,20.675) 329(-12.2,20.675) 330(-12.6,20.675) 331(-13,20.675) 332(-13.4,20.675)
Top Overlay:
  circle w0.6: c-12.3,18.3 r0.3
  circle w0.25: c-14.675,20.1 r0.125
  lines w0.2: -13.3,-19.3 13.3,-19.3 13.3,19.3 -13.3,19.3 -13.3,-19.3
Mechanical 13:
  circle w0.1: c-13.1,19.1 r0.5
  lines w0.1: -14,-20 14,-20 14,20 -14,20 -14,-20
Mechanical 15:
  lines w0.1: -0.5,0 0.5,0 ; 0,-0.5 0,0.5 ; -16.15,-22.15 16.15,-22.15 16.15,22.15 -16.15,22.15 -16.15,-22.15
3D body: height 4.2, standoff 0, extent -14,-20 14,20